# EAGLE library part 68611814122 (library Eagle_FPC_CONNECTOR_AND_FFC_CAB (rev18c))
WR-FPC 1.00mm SMT ZIF Horizontal Top Contact, 18 Pins=>Code : Con_FPC_ZIF_1.00_68611814122 <http://katalog.we-online.de/media/images/eican/Con_FPC_ZIF_1.00_6861xx14122_pf2.jpg> Details see: http://katalog.we-online.de/en/em/686_1xx_141_22 Created 2014-07-09, Karrer Zheng 2014 (C) Würth Elektronik
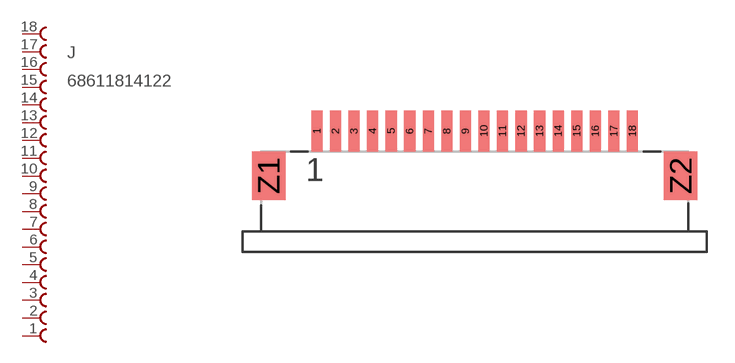
[diagram p46: symbol with the pads of 68611814122; footprint 68611814122]

Designator prefix J

## 68611814122  [68611814122]
1  18  pas
2  17  pas
3  16  pas
4  15  pas
5  14  pas
6  13  pas
7  12  pas
8  11  pas
9  10  pas
10  9  pas
11  8  pas
12  7  pas
13  6  pas
14  5  pas
15  4  pas
16  3  pas
17  2  pas
18  1  pas

## Footprint 68611814122 (pad centres in mm)
WR-FPC 1.00mm SMT ZIF Horizontal Top Contact, 18 Pins
smd 0.6 x 2.2: 1 -8.5,2.4; 2 -7.5,2.4; 3 -6.5,2.4; 4 -5.5,2.4; 5 -4.5,2.4; 6 -3.5,2.4; 7 -2.5,2.4; 8 -1.5,2.4; 9 -0.5,2.4; 10 0.5,2.4; 11 1.5,2.4; 12 2.5,2.4; 13 3.5,2.4; 14 4.5,2.4; 15 5.5,2.4; 16 6.5,2.4; 17 7.5,2.4; 18 8.5,2.4
smd 1.8 x 2.6: Z1 -11.1,0; Z2 11.1,0